# Altium schematic symbol library Zener.SchLib: 10 symbols
Pins are listed as number, name and electrical type; pins without a type are passive.

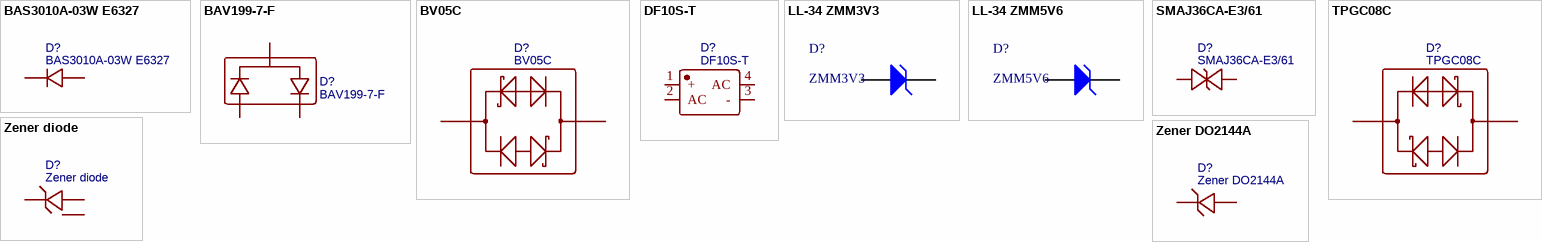
[diagram p0: symbols BAS3010A-03W E6327 to Zener DO2144A]

## BAS3010A-03W E6327
designator D?
BOM_Manufacturer: Infineon Technologies; BOM_Manufacturer Part: BAS 3010A-03W E6327
footprint SOD-323_L1.8-W1.3-LS2.5-RD
pins: 1 C, 2 A

## BAV199-7-F
designator D?
BOM_Manufacturer: DIODES; Contributor: LCSC; SMT Type: Extend; BOM_Supplier Part: C155248; BOM_Supplier: LCSC; BOM_Manufacturer Part: BAV199-7-F; BOM_JLCPCB SMD: Yes; spicePre: D; spiceSymbolName: BAV199-7-F
footprint SOT-23-3
pins: 1, 2, 3

## BV05C
designator D?
BOM_Manufacturer: Bencent; Contributor: LCSC; SMT Type: Extend; BOM_Supplier: LCSC; BOM_Supplier Part: C409434; BOM_Manufacturer Part: BV05C; BOM_JLCPCB SMD: Yes; spicePre: D; spiceSymbolName: BV05C
footprint SOD-323_L1.8-W1.3-LS2.5-BI
pins: 1, 2

## DF10S-T
designator D?
BOM_Manufacturer: Diodes Incorporated; Contributor: LCSC; SMT Type: Extend; BOM_Supplier: LCSC; BOM_Supplier Part: C102616; BOM_Manufacturer Part: DF10S-T; BOM_JLCPCB SMD: Yes; spicePre: D; spiceSymbolName: DF10S-T
footprint DF-S_L8.4-W6.4-P5.10-LS10.4-TR
pins: 1 +, 2 AC, 3 -, 4 AC

## LL-34 ZMM3V3
designator D?, comment ZMM3V3
稳压二极管; ComponentLink1Description: 供应商链接; ComponentLink1URL: http://www.szlcsc.com/product/details_8535.html; Package: LL-34; Supplier: LC; SuppliersPartNumber: C8056
footprint LL-34
pins: 1 A, 2 K

## LL-34 ZMM5V6
designator D?, comment ZMM5V6
稳压二极管; ComponentLink1Description: 供应商链接; ComponentLink1URL: http://www.szlcsc.com/product/details_8541.html; Package: LL-34; Supplier: LC; SuppliersPartNumber: C8062
footprint LL-34
pins: 1 A, 2 K

## SMAJ36CA-E3/61
designator D?
BOM_Manufacturer: Vishay Intertech; Contributor: LCSC; BOM_Supplier: LCSC; BOM_Supplier Part: C968539; BOM_Manufacturer Part: SMAJ36CA-E3/61; spicePre: D; spiceSymbolName: SMAJ36CA-E3/61
footprint SMA_L4.4-W2.6-LS5.0-BI
pins: 1, 2

## TPGC08C
designator D?
BOM_Manufacturer: TECH PUBLIC; Contributor: LCSC; BOM_Supplier: LCSC; BOM_Supplier Part: C708756; BOM_Manufacturer Part: TPGC08C; spicePre: D; spiceSymbolName: TPGC08C
footprint SOD-323_L1.8-W1.3-LS2.5-BI
pins: 1, 2

## Zener diode
designator D?
BOM_Manufacturer: ON; BOM_Manufacturer Part: BZX84C10LT1G; BOM_Paste Type: expand; BOM_Supplier: LCSC; BOM_Supplier Part: C82476; spicePre: D; spiceSymbolName: BZX84C10LT1G
footprint SOT-23_L2.9-W1.3-P1.90-LS2.4-BR
pins: 1 A, 2, 3 C

## Zener DO2144A
designator D?
BOM_Manufacturer: ON; BOM_Manufacturer Part: 1SMB5939BT3G
footprint DO-214AA
pins: 1 K, 2 A